# Altium schematic symbol library PS,DC-DC,5Vin,+-12Vout,3W,RS3K-0512D_H3.SchLib: 1 symbol
Pins are listed as number, name and electrical type; pins without a type are passive.

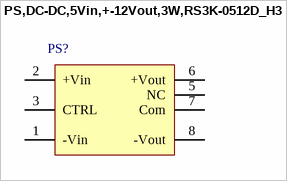
[diagram p0: symbol PS,DC-DC,5Vin,+-12Vout,3W,RS3K-0512D_H3]

## PS,DC-DC,5Vin,+-12Vout,3W,RS3K-0512D_H3
designator PS?
pins: 1 -Vin (power), 2 +Vin (power), 3 CTRL, 5 NC, 6 +Vout (power), 7 Com (power), 8 -Vout (power)